# Altium schematic symbol library 12065A331JAT2A.SchLib: 1 symbol
Pins are listed as number, name and electrical type; pins without a type are passive.

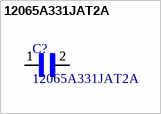
[diagram p0: symbol 12065A331JAT2A]

## 12065A331JAT2A
designator C?
Ceramic Multilayer Capacitor; Capacitor Type:General Purpose; Capacitance:330pF; Capacitance Tolerance:Â± 5%; Voltage Rating:50VDC; Capacitor Dielectric Type:Multilayer Ceramic; Package/Case:1206; Termination Type:SMD ;RoHS Compliant: Yes; MF: {'manufacturer': u'AVX'}; Value: *; Package: None; MP: 12065A331JAT2A; Price: None; Availability: Unavailable
footprint CAPC3216X94N
pins: 1, 1, 2, 2